# Altium integrated library ERJS06J224V.IntLib: 1 symbol
Pins are listed as number, name and electrical type; pins without a type are passive.

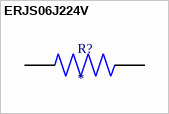
[diagram p0: symbol ERJS06J224V]

## ERJS06J224V
designator R?
MP: ERJS06J224V; Availability: Unavailable; Price: None; Value: *; Package: None
footprint RES_ERJS06J224V
pins: 1, 2